# EAGLE library part 750342851 (library WE-OLTI)
WE-OLTI Offline Flyback Transformers Characteristics Nominal input voltage: 85–265 VAC (120–375 VDC) Small size Low leakage inductance Multiple-output options Operating temperature: −40 °C to +125 °C Isolation Voltage: 2 kVAC to 5 kVAC Options for fixed frequency or quasi-resonant mode operation Most products meet reinforced insulation Applications Industrial controls USB chargers Utility metering devices Process controls Factory automation Security systems Garage door opener auxiliary supplies Home appliances Especially designed for several ICs from Texas Instruments <https://www.we-online.com/components/media/o814034v209%20UtOLTI%20Group%20CGI.jpg> Details see: www.we-online.com/en/components/products/WE-OLTI <www.we-online.com/catalog/WE-OLTI/?utm_source=eagle_model&utm_medium=description_link&utm_campaign=eisos_eagle> Created by Ella Wu 2025-02-06 2025 (C) Wurth Elektronik
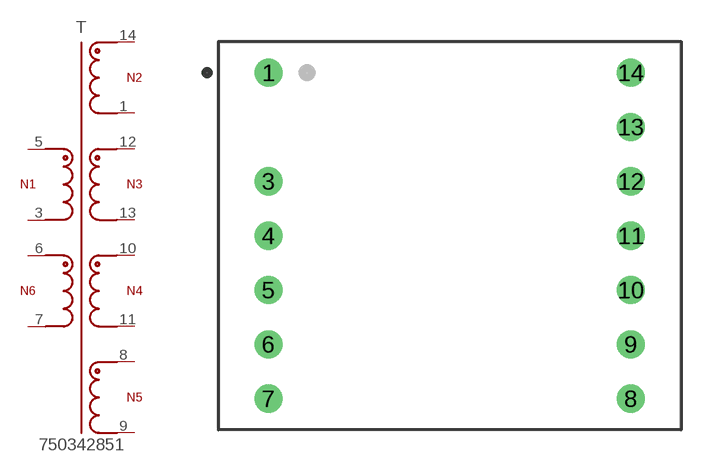
[diagram p24: symbol with the pads of WE-OLTI_EE25/13/7_L27.05W32.25H22.86_13PINS; footprint WE-OLTI_EE25/13/7_L27.05W32.25H22.86_13PINS]

Designator prefix T

## 750342851 (DATASHEET-URL: https://www.we-online.com/redexpert/spec/750342851?ae; FSWITCH: 75kHz; HEIGHT: 22.86mm; IOUT1: 1000mA; IOUT2: 65mA; IOUT3: 65mA; ISAT: 2.78A; L: 150uH; LENGTH: 27.05mm; MOUNT: THT; N: 3.75:1.5:1:1:1:1; PART-NUMBER: 750342851; SIZE: EE25/13/7; VALUE: 150uH; VAUX: 15V; VIN: 43 - 318 V (AC); VOUT1: 24V; VOUT2: 15V; VOUT3: 15V; VT: 1250V(AC); WIDTH: 32.25mm)  [WE-OLTI_EE25/13/7_L27.05W32.25H22.86_13PINS]
1  1  pas
3  3  pas
5  5  pas
6  6  pas
7  7  pas
8  8  pas
9  9  pas
10  10  pas
11  11  pas
12  12  pas
13  13  pas
14  14  pas

## Footprint WE-OLTI_EE25/13/7_L27.05W32.25H22.86_13PINS (pad centres in mm)
WE-OLTI Offline Flyback Transformers Size:EE25/13/7,THT,13pins LXWXH=27.05X32.25X22.86mm Bobbin: 070-5644
drill 1.32: 1 -12.7,11.43; 3 -12.7,3.81; 4 -12.7,0; 5 -12.7,-3.81; 6 -12.7,-7.62; 7 -12.7,-11.43; 8 12.7,-11.43; 9 12.7,-7.62; 10 12.7,-3.81; 11 12.7,0; 12 12.7,3.81; 13 12.7,7.62; 14 12.7,11.43